# Altium footprint library ad.PcbLib: 129 footprints (part 9 of 12)
Each footprint in its own frame and in the unit in brackets; x right, y up, seen from the top. Pads: shape width x height; smd on the part's side, far side on the other; paste and mask are expansions set on the pad; w line width, h text height; cw(c..) or ccw(c..) is an arc to the next point about the centre after c.
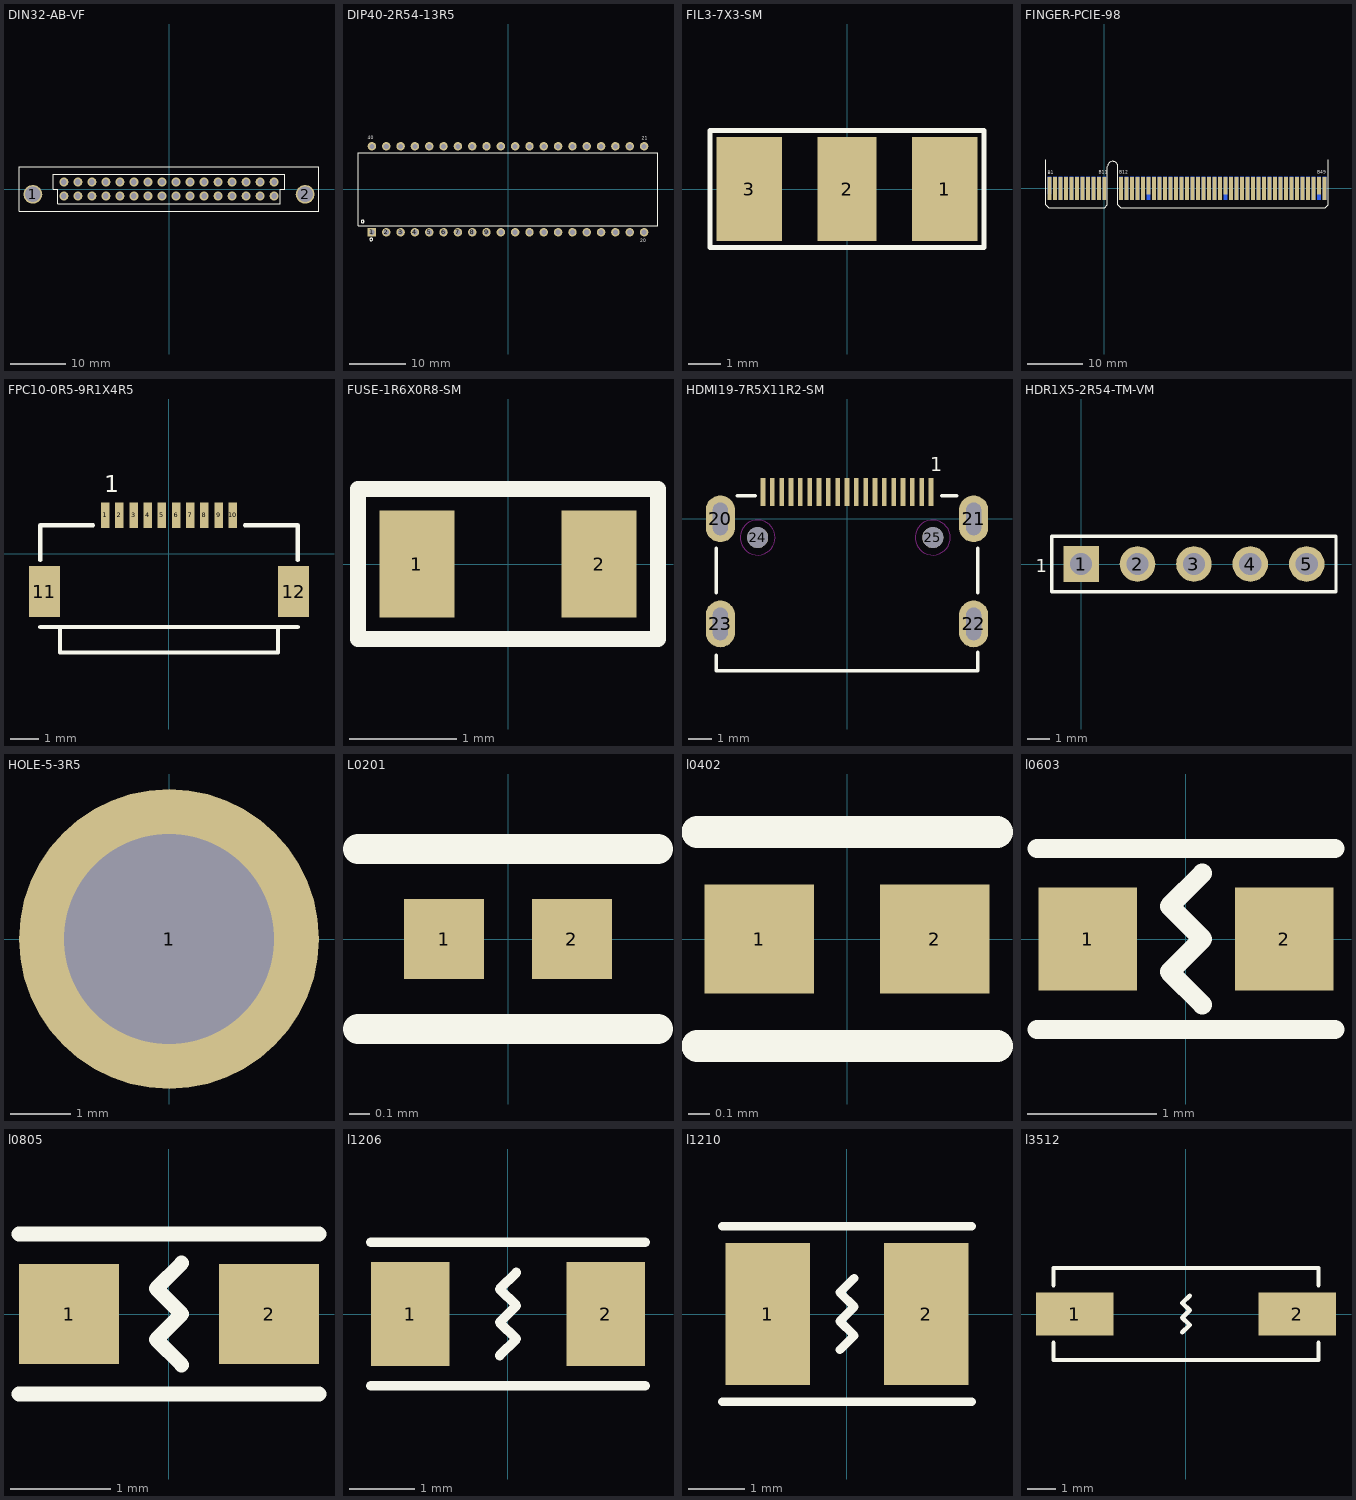
[diagram p8: the footprints below, top view; thin cyan lines are the x and y axes]

## DIN32-AB-VF [mm]
pads (34):
  round 3.4 hole 2.8: 1(-24.68,-0.97) 2(24.68,-0.97)
  round 1.6 hole 1: A1(19.05,1.27) A2(16.51,1.27) A3(13.97,1.27) A4(11.43,1.27) A5(8.89,1.27) A6(6.35,1.27) A7(3.81,1.27) A8(1.27,1.27) A9(-1.27,1.27) A10(-3.81,1.27) A11(-6.35,1.27) A12(-8.89,1.27) A13(-11.43,1.27) A14(-13.97,1.27) A15(-16.51,1.27) A16(-19.05,1.27) B1(19.05,-1.27) B2(16.51,-1.27) B3(13.97,-1.27) B4(11.43,-1.27) B5(8.89,-1.27) B6(6.35,-1.27) B7(3.81,-1.27) B8(1.27,-1.27) B9(-1.27,-1.27) B10(-3.81,-1.27) B11(-6.35,-1.27) B12(-8.89,-1.27) B13(-11.43,-1.27) B14(-13.97,-1.27) B15(-16.51,-1.27) B16(-19.05,-1.27)
Top Overlay:
  lines w0.15: 20.2,-0.007 20.2,-2.7 -20.2,-2.7 -20.2,-0.007 -20.207,0 -21,0 -21,2.7 21,2.7 21,0 20.207,0 ; -27.2,-4.05 27.2,-4.05 27.2,4.05 -27.2,4.05 -27.2,-4.05
Bottom Overlay:
  text "B1" at 21.209,-1.651 h0.6
  text "A1" at 21.209,1.143 h0.6
  text "A16" at -20.32,1.016 h0.6
  text "B16" at -20.32,-1.651 h0.6

## DIP40-2R54-13R5 [mm]
pads (40):
  rect 1.5x1.5 hole 0.9: 1(-24.13,-7.62)
  round 1.5 hole 0.9: 2(-21.59,-7.62) 3(-19.05,-7.62) 4(-16.51,-7.62) 5(-13.97,-7.62) 6(-11.43,-7.62) 7(-8.89,-7.62) 8(-6.35,-7.62) 9(-3.81,-7.62) 10(-1.27,-7.62) 11(1.27,-7.62) 12(3.81,-7.62) 13(6.35,-7.62) 14(8.89,-7.62) 15(11.43,-7.62) 16(13.97,-7.62) 17(16.51,-7.62) 18(19.05,-7.62) 19(21.59,-7.62) 20(24.13,-7.62) 21(24.13,7.62) 22(21.59,7.62) 23(19.05,7.62) 24(16.51,7.62) 25(13.97,7.62) 26(11.43,7.62) 27(8.89,7.62) 28(6.35,7.62) 29(3.81,7.62) 30(1.27,7.62) 31(-1.27,7.62) 32(-3.81,7.62) 33(-6.35,7.62) 34(-8.89,7.62) 35(-11.43,7.62) 36(-13.97,7.62) 37(-16.51,7.62) 38(-19.05,7.62) 39(-21.59,7.62) 40(-24.13,7.62)
Top Overlay:
  circle w0.15: c-25.777,-5.715 r0.25
  circle w0.15: c-24.253,-8.89 r0.25
  lines w0.15: -26.6,-6.5 -26.6,6.5 26.6,6.5 26.6,-6.5 -26.6,-6.5
  text "40" at -24.892,8.89 h0.6
  text "21" at 23.749,8.763 h0.6
  text "20" at 23.495,-9.398 h0.6

## FIL3-7X3-SM [mm]
pads (3):
  rect 2x3.2 smd: 1(3,0) 3(-3,0)
  rect 1.8x3.2 smd: 2(0,0)
Top Overlay:
  lines w0.15: -4.2,-1.8 -4.2,1.8 4.2,1.8 4.2,-1.8 -4.2,-1.8

## FINGER-PCIE-98 [mm]
pads (98):
  rect 0.7x3.2 smd far side: A1(-10,0.5)
  rect 0.7x4.2 smd far side: A2(-9,0) A3(-8,0) A4(-7,0) A5(-6,0) A6(-5,0) A7(-4,0) A8(-3,0) A9(-2,0) A10(-1,0) A11(0,0) A12(3,0) A13(4,0) A14(5,0) A15(6,0) A16(7,0) A17(8,0) A18(9,0) A19(10,0) A20(11,0) A21(12,0) A22(13,0) A23(14,0) A24(15,0) A25(16,0) A26(17,0) A27(18,0) A28(19,0) A29(20,0) A30(21,0) A31(22,0) A32(23,0) A33(24,0) A34(25,0) A35(26,0) A36(27,0) A37(28,0) A38(29,0) A39(30,0) A40(31,0) A41(32,0) A42(33,0) A43(34,0) A44(35,0) A45(36,0) A46(37,0) A47(38,0) A48(39,0) A49(40,0)
  rect 0.7x4.2 smd: B1(-10,0) B2(-9,0) B3(-8,0) B4(-7,0) B5(-6,0) B6(-5,0) B7(-4,0) B8(-3,0) B9(-2,0) B10(-1,0) B11(0,0) B12(3,0) B13(4,0) B14(5,0) B15(6,0) B16(7,0) B18(9,0) B19(10,0) B20(11,0) B21(12,0) B22(13,0) B23(14,0) B24(15,0) B25(16,0) B26(17,0) B27(18,0) B28(19,0) B29(20,0) B30(21,0) B32(23,0) B33(24,0) B34(25,0) B35(26,0) B36(27,0) B37(28,0) B38(29,0) B39(30,0) B40(31,0) B41(32,0) B42(33,0) B43(34,0) B44(35,0) B45(36,0) B46(37,0) B47(38,0) B49(40,0)
  rect 0.7x3.2 smd: B17(8,0.5) B31(22,0.5) B48(39,0.5)
Top Overlay:
  lines w0.15: -10.65,5.207 -10.65,-3 -10.15,-3.5 0.05,-3.5 0.55,-3 ; 0.55,3.937 cw(c1.5,3.937) 2.45,3.937 2.45,-3 2.95,-3.5 13.15,-3.5 40.15,-3.5 ; 0.55,3.95 0.55,-3 ; 40.65,5.207 40.65,-3 40.15,-3.5 ; 0.55,-3 0.55,-3 ; 40.15,-3.5 40.15,-3.5
  text "B1" at -10.287,2.54 h0.6
  text "B11" at -1.016,2.667 h0.6
  text "B12" at 2.667,2.667 h0.6
  text "B49" at 38.735,2.667 h0.6
Bottom Overlay:
  text "A1" at -9.652,2.54 h0.6
  text "A11" at 0.254,2.667 h0.6
  text "A12" at 4.064,2.667 h0.6
  text "A49" at 40.259,2.667 h0.6
Top Solder:
  rectangle: -12.446,-5.461 41.91,2.794
Bottom Solder:
  rectangle: -12.446,-5.461 41.91,2.794

## FPC10-0R5-9R1X4R5 [mm]
pads (12):
  rect 0.3x0.9 smd: 1(-2.25,1.35) 2(-1.75,1.35) 3(-1.25,1.35) 4(-0.75,1.35) 5(-0.25,1.35) 6(0.25,1.35) 7(0.75,1.35) 8(1.25,1.35) 9(1.75,1.35) 10(2.25,1.35)
  rect 1.1x1.8 smd: 11(-4.4,-1.35) 12(4.4,-1.35)
Top Overlay:
  lines w0.15: -4.55,-2.6 4.55,-2.6 ; -4.55,-0.232 -4.55,1 -2.683,1 ; -3.81,-2.6 -3.85,-2.64 -3.85,-3.5 3.85,-3.5 3.85,-2.64 3.81,-2.6 ; 2.683,1 4.55,1 4.55,-0.232
  text "1" at -2.286,2.159 h0.6

## FUSE-1R6X0R8-SM [mm]
pads (2):
  rect 0.7x1 smd: 1(-0.85,0) 2(0.85,0)
Top Overlay:
  lines w0.15: -1.4,-0.7 -1.4,0.7 1.4,0.7 1.4,-0.7 -1.4,-0.7

## HDMI19-7R5X11R2-SM [mm]
pads (25):
  rect 0.2x1.2 smd: 1(3.6,1.15) 2(3.2,1.15) 3(2.8,1.15) 4(2.4,1.15) 5(2,1.15) 6(1.6,1.15) 7(1.2,1.15) 8(0.8,1.15) 9(0.4,1.15) 10(0,1.15) 11(-0.4,1.15) 12(-0.8,1.15) 13(-1.2,1.15) 14(-1.6,1.15) 15(-2,1.15) 16(-2.4,1.15) 17(-2.8,1.15) 18(-3.2,1.15) 19(-3.6,1.15)
  oval 1.25x2 hole 0.65 slot 1.4 at 90 deg: 20(-5.425,0) 21(5.425,0) 22(5.425,-4.5) 23(-5.425,-4.5)
  round 0.9 hole 0.9 unplated: 24(-3.825,-0.8) 25(3.675,-0.8)
Top Overlay:
  lines w0.15: -5.6,-5.842 -5.6,-6.5 ; -5.6,-3.175 -5.6,-1.27 ; -4.699,1 -3.937,1 ; 4.064,1 4.699,1 ; 5.6,-5.715 5.6,-6.5 ; 5.6,-3.175 5.6,-1.27 ; -5.6,-6.5 5.6,-6.5 ; -5.6,-6.5 5.6,-6.5
  text "1" at 3.556,2.032 h0.6
Keep-Out Layer:
  circle w0: c3.675,-0.8 r0.75
  circle w0: c-3.825,-0.8 r0.75

## HDR1X5-2R54-TM-VM [mm]
pads (5):
  rect 1.6x1.6 hole 1: 1(0,0)
  round 1.6 hole 1: 2(2.54,0) 3(5.08,0) 4(7.62,0) 5(10.16,0)
Top Overlay:
  lines w0.15: -1.32,-1.25 11.48,-1.25 11.48,1.25 -1.32,1.25 -1.32,-1.25
  text "1" at -2.032,-0.381 h0.6

## HOLE-5-3R5 [mm]
pads (1):
  round 5 hole 3.5: 1(0,0)

## L0201 [mm]
pads (2):
  rect 0.4x0.4 smd: 1(-0.32,0) 2(0.32,0)
Top Overlay:
  lines w0.15: -0.75,-0.45 -0.2,-0.45 0.2,-0.45 0.75,-0.45 ; -0.75,0.45 -0.2,0.45 0.2,0.45 0.75,0.45

## l0402 [mm]
pads (2):
  rect 0.51x0.51 smd: 1(-0.41,0) 2(0.41,0)
Top Overlay:
  lines w0.15: -0.7,-0.5 0.7,-0.5 ; -0.7,0.5 0.7,0.5

## l0603 [mm]
pads (2):
  rect 0.76x0.8 smd: 1(-0.76,0) 2(0.76,0)
Top Overlay:
  lines w0.15: -1.15,-0.7 1.15,-0.7 ; -1.15,0.7 1.15,0.7 ; 0.127,-0.508 -0.127,-0.254 0.127,0 -0.127,0.254 0.127,0.508

## l0805 [mm]
pads (2):
  rect 1x1 smd: 1(-1,0) 2(1,0)
Top Overlay:
  lines w0.15: -1.5,-0.8 1.5,-0.8 ; -1.5,0.8 1.5,0.8 ; 0.127,-0.508 -0.127,-0.254 0.127,0 -0.127,0.254 0.127,0.508

## l1206 [mm]
pads (2):
  rect 1.2x1.6 smd: 1(-1.5,0) 2(1.5,0)
Top Overlay:
  lines w0.15: -2.1,-1.1 2.1,-1.1 ; -2.1,1.1 2.1,1.1 ; -0.127,-0.635 0.127,-0.381 -0.127,-0.127 0.127,0.127 -0.127,0.381 0.127,0.635

## l1210 [mm]
pads (2):
  rect 1.5x2.5 smd: 1(-1.4,0) 2(1.4,0)
Top Overlay:
  lines w0.15: -2.2,-1.55 2.2,-1.55 ; -2.2,1.55 2.2,1.55 ; -0.127,-0.635 0.127,-0.381 -0.127,-0.127 0.127,0.127 -0.127,0.381 0.127,0.635

## l3512 [mm]
pads (2):
  rect 2.7x1.5 smd: 1(-3.86,0) 2(3.86,0)
Top Overlay:
  lines w0.15: -4.6,-1 -4.6,-1.6 4.6,-1.6 4.6,-1 ; -4.6,1 -4.6,1.6 4.6,1.6 4.6,1 ; -0.127,-0.635 0.127,-0.381 -0.127,-0.127 0.127,0.127 -0.127,0.381 0.127,0.635